# EAGLE library part TPS2596 (library omcPwrSupply)
TPS2596 2.7 to 19 V, 0.125 to 2-A, 89-mΩ eFuse With Accurate Current Monitor and Fast Overvoltage Protection Wide input voltage range: 2.7-V to 19-V Adjustable current limit with load current monitor output (ILM) Current range: 0.125-A to 2-A Adjustable output slew rate control (dVdt) Overtemperature protection Fault indication pin (FLT) TI Datasheet <https://www.ti.com/product/TPS2596>
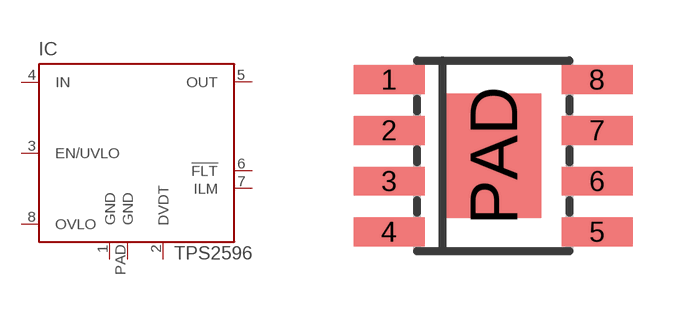
[diagram p13: symbol with the pads of SOIC08-PAD; footprint SOIC08-PAD]

Designator prefix IC

## TPS259631 (VALUE: TPS259631; VENDOR#: TI,TPS259631)  [SOIC08-PAD]
1  GND  pwr
2  DVDT  pwr
3  EN/UVLO  pas
4  IN  pwr
5  OUT  out
6  !FLT  pas
7  ILM  pas
8  OVLO  pas
PAD  GND  pwr

## Footprint SOIC08-PAD (pad centres in mm)
SOIC08 SOIC-8 SMD 5mm×6.2mm Wikipedia <https://en.wikipedia.org/wiki/Small_Outline_Integrated_Circuit>
smd 1.78 x 0.72: 1 -2.6,1.905; 2 -2.6,0.635; 3 -2.6,-0.635; 4 -2.6,-1.905; 5 2.6,-1.905; 6 2.6,-0.635; 7 2.6,0.635; 8 2.6,1.905
smd 2.4 x 3.1: PAD 0,0